# EAGLE library part ESIM (library mff2-to-4ffnano)
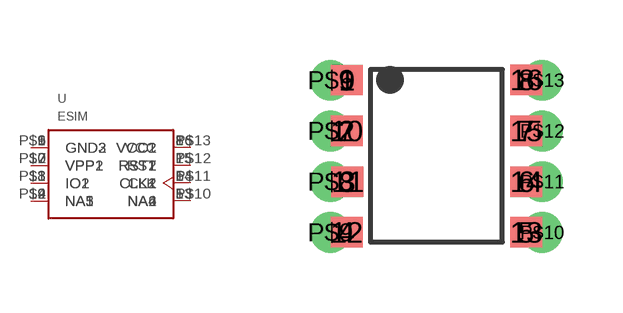
[diagram p0: symbol with the pads of MFF2; footprint MFF2]

Designator prefix -

## ESIM  [MFF2]
1  GND  pwr
2  VPP  pwr
3  IO
4  NA1
5  NA2
6  CLK
7  RST
8  VCC  pwr
9  GND2  pwr
10  VPP1  pwr
11  IO1
12  NA3
13  NA4
14  CLK1
15  RST1
16  VCC1  pwr
P$6  GND3  pwr
P$7  VPP2  pwr
P$8  IO2
P$9  NA5
P$10  NA6
P$11  CLK2
P$12  RST2
P$13  VCC2  pwr

## Footprint MFF2 (pad centres in mm)
smd 0.8 x 0.76 bottom: 1 -2.245,1.895; 2 -2.245,0.625; 3 -2.224,-0.645; 4 -2.245,-1.915; 5 2.245,-1.915; 6 2.245,-0.645; 7 2.245,0.625; 8 2.245,1.905
smd 0.8 x 0.76: 9 -2.245,1.895; 10 -2.245,0.625; 11 -2.224,-0.645; 12 -2.245,-1.915; 13 2.245,-1.915; 14 2.245,-0.645; 15 2.245,0.625; 16 2.245,1.905
drill 0.51 pad 0.76: P$6 -2.65,1.893; P$7 -2.65,0.623; P$8 -2.65,-0.647; P$9 -2.65,-1.917; P$10 2.65,-1.917; P$11 2.65,-0.647; P$12 2.65,0.623; P$13 2.65,1.893